# EAGLE library part GENERIC-2X12 (library p.peter-connectors)
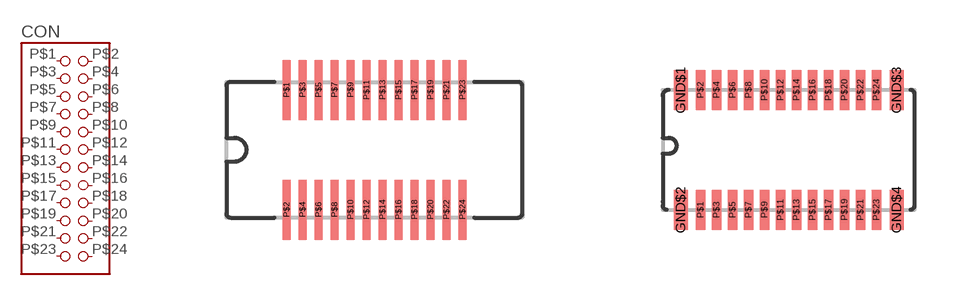
[diagram p4: symbol with the pads of HIROSE-DF40C-24DS; footprints HIROSE-DF40C-24DS, HIROSE-DF40C-24DP]

Designator prefix CON

## GENERIC-2X12RECEPTABLE  [HIROSE-DF40C-24DS]
P$1  1
P$2  2
P$3  3
P$4  4
P$5  5
P$6  6
P$7  7
P$8  8
P$9  9
P$10  10
P$11  11
P$12  12
P$13  13
P$14  14
P$15  15
P$16  16
P$17  17
P$18  18
P$19  19
P$20  20
P$21  21
P$22  22
P$23  23
P$24  24

## GENERIC-2X12HEADER  [HIROSE-DF40C-24DP]
Pads as for HIROSE-DF40C-24DS

## Footprint HIROSE-DF40C-24DS (pad centres in mm)
24 Pin Hirose DF40 connector Receptable
smd 0.2 x 1.5: P$1 -2.2,1.5; P$2 -2.2,-1.5; P$3 -1.8,1.5; P$4 -1.8,-1.5; P$5 -1.4,1.5; P$6 -1.4,-1.5; P$7 -1,1.5; P$8 -1,-1.5; P$9 -0.6,1.5; P$10 -0.6,-1.5; P$11 -0.2,1.5; P$12 -0.2,-1.5; P$13 0.2,1.5; P$14 0.2,-1.5; P$15 0.6,1.5; P$16 0.6,-1.5; P$17 1,1.5; P$18 1,-1.5; P$19 1.4,1.5; P$20 1.4,-1.5; P$21 1.8,1.5; P$22 1.8,-1.5; P$23 2.2,1.5; P$24 2.2,-1.5

## Footprint HIROSE-DF40C-24DP (pad centres in mm)
24 Pin Hirose DF 40 Connector Header
smd 0.35 x 1: GND$1 -2.7,1.5; GND$2 -2.7,-1.5; GND$3 2.7,1.5; GND$4 2.7,-1.5
smd 0.23 x 1: P$1 -2.2,-1.5; P$2 -2.2,1.5; P$3 -1.8,-1.5; P$4 -1.8,1.5; P$5 -1.4,-1.5; P$6 -1.4,1.5; P$7 -1,-1.5; P$8 -1,1.5; P$9 -0.6,-1.5; P$10 -0.6,1.5; P$11 -0.2,-1.5; P$12 -0.2,1.5; P$13 0.2,-1.5; P$14 0.2,1.5; P$15 0.6,-1.5; P$16 0.6,1.5; P$17 1,-1.5; P$18 1,1.5; P$19 1.4,-1.5; P$20 1.4,1.5; P$21 1.8,-1.5; P$22 1.8,1.5; P$23 2.2,-1.5; P$24 2.2,1.5